# EAGLE library part LM3914 (library ynakano1127)
Dot/Bar Display Driver
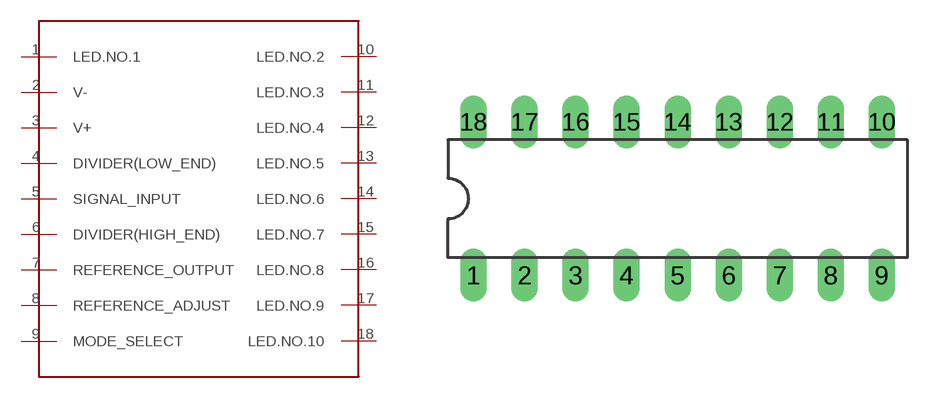
[diagram p1: symbol with the pads of DIL18; footprint DIL18]

Designator prefix -

## LM3914  [DIL18]
1  LED.NO.1
2  V-
3  V+
4  DIVIDER(LOW_END)
5  SIGNAL_INPUT
6  DIVIDER(HIGH_END)
7  REFERENCE_OUTPUT
8  REFERENCE_ADJUST
9  MODE_SELECT
10  LED.NO.2
11  LED.NO.3
12  LED.NO.4
13  LED.NO.5
14  LED.NO.6
15  LED.NO.7
16  LED.NO.8
17  LED.NO.9
18  LED.NO.10

## Footprint DIL18 (pad centres in mm)
Dual In Line Package
drill 0.813 long: 1 -10.16,-3.81; 2 -7.62,-3.81; 3 -5.08,-3.81; 4 -2.54,-3.81; 5 0,-3.81; 6 2.54,-3.81; 7 5.08,-3.81; 8 7.62,-3.81; 9 10.16,-3.81; 10 10.16,3.81; 11 7.62,3.81; 12 5.08,3.81; 13 2.54,3.81; 14 0,3.81; 15 -2.54,3.81; 16 -5.08,3.81; 17 -7.62,3.81; 18 -10.16,3.81